# EAGLE library part CORTEX_DEBUG_CON_10 (library ihpcb-pin_header)
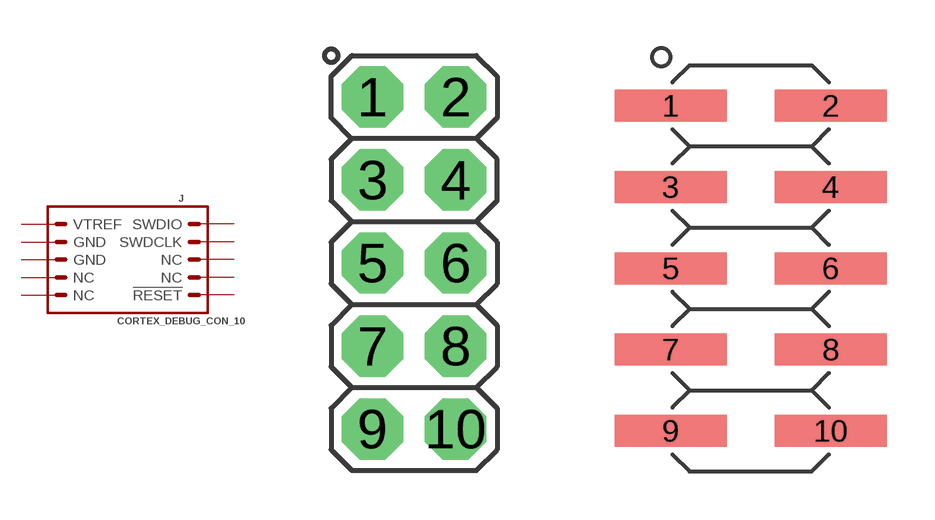
[diagram p2: symbol with the pads of H5X2_100_MIL_TH; footprints H5X2_100_MIL_TH, H5X2_100_MIL_SMD]

Designator prefix J

## CORTEX_DEBUG_CON_10_TH  [H5X2_100_MIL_TH]
1  VTREF
2  SWDIO
3  GND
4  SWDCLK
5  GND
6  NC
7  NC
8  NC
9  NC
10  !RESET

## CORTEX_DEBUG_CON_10_SMD  [H5X2_100_MIL_SMD]
Pads as for H5X2_100_MIL_TH

## Footprint H5X2_100_MIL_TH (pad centres in mm)
drill 1.016 pad 1.88 octagon: 1 -1.27,5.08; 2 1.27,5.08; 3 -1.27,2.54; 4 1.27,2.54; 5 -1.27,0; 6 1.27,0; 7 -1.27,-2.54; 8 1.27,-2.54; 9 -1.27,-5.08; 10 1.27,-5.08

## Footprint H5X2_100_MIL_SMD (pad centres in mm)
smd 3.5 x 1: 1 -2.5,5.08; 2 2.5,5.08; 3 -2.5,2.54; 4 2.5,2.54; 5 -2.5,0; 6 2.5,0; 7 -2.5,-2.54; 8 2.5,-2.54; 9 -2.5,-5.08; 10 2.5,-5.08